# Altium integrated library Lattice CPLD ispMACH 5000VG.IntLib: 24 symbols (part 5 of 5)
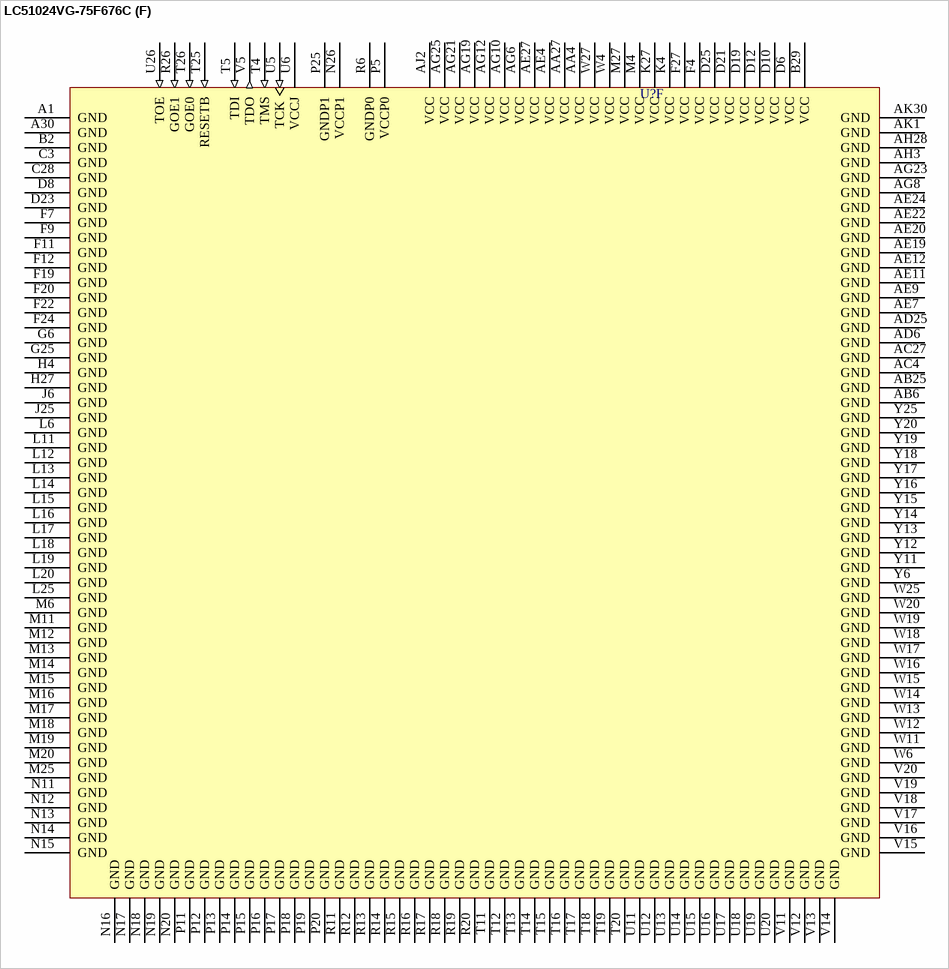
[diagram p37: symbol LC51024VG-75F676C]

## LC51024VG-75F676C
designator U?
ispMACH 51024VG SuperBIG, SuperWIDE, High Density PLD, 3.3 V, 384 User I/Os, 676-Ball fpBGA, 7.5 ns, Commercial Grade; Published: 17-Dec-2003; LatestRevisionDate: 13-Apr-2006; LatestRevisionNote: IPC-7351 Footprint Added.; DatasheetVersion: 5kvg_09; PackageVersion: pkg_32, Aug-2005; PackageReference: fpBGA676; Publisher: Altium Limited; PackageDescription: 676-Ball Fine Pitch Ball Grid Array (fpBGA676); ComponentLink1Description: Manufacturer Link; ComponentLink1URL: http://www.latticesemi.com/; ComponentLink2Description: Datasheet; ComponentLink2URL: http://www.latticesemi.com/account/_download.cfm?AMID=3480; ComponentLink3Description: Lattice Login; ComponentLink3URL: http://www.latticesemi.com/account/login.cfm
footprint fpBGA676 (BGA, 676-Leads, Body 31x31mm, Pitch 1mm)
3D model 51024VG-fpBGA676 (676-Ball Fine Pitch Ball Grid Array (fpBGA676))
part A pins: A2 0A-8 (io), A3 0A-0 (io), A4 0D-0 (io), A5 0D-10 (io), A6 0D-16 (io), A7 0D-24 (io), A8 0C-0 (io), A9 0C-6 (io), A10 0C-16 (io), A11 0C-20 (io), A12 0C-26 (io), A13 0C-30 (io), B1 0A-20 (io), B3 0A-10 (io), B4 0A-2 (io), B5 0D-2 (io), B6 0D-12 (io), B7 0D-18 (io), B8 0D-28 (io), B9 0C-2 (io), B10 0C-10 (io), B11 0C-18 (io), B12 0C-24 (io), B13 0C-28 (io), C1 0B-30 (io), C2 0A-22 (io), C4 0A-12 (io), C5 0A-4 (io), C6 0D-8 (io), C7 0D-14 (io), C8 0D-20 (io), C9 0D-30 (io), C10 0C-4 (io), C11 0C-14/VREF0 (io), C12 0C-22 (io), D1 0B-24 (io), D2 0B-28 (io), D3 0A-26 (io), D4 0A-18 (io), D5 0A-14 (io), D7 0D-6 (io), D9 0D-22 (io), D11 0C-8 (io), E1 0B-16 (io), E2 0B-22 (io), E3 0B-26 (io), E4 0A-28 (io), E5 VCCO0 (power), E6 0A-16 (io), E7 VCCO0 (power), E8 0D-4 (io), E9 VCCO0 (power), E10 0D-26 (io), E11 VCCO0 (power), E12 0C-12 (io), F1 0B-6 (io), F2 0B-12 (io), F3 0B-18 (io), F5 0A-30 (io), F6 0A-24 (io), F8 0A-6 (io), F10 VCCO0 (power), G1 0B-0 (io), G2 0B-4 (io), G3 0B-8 (io), G4 0B-14 (io), G5 VCCO0 (power), H1 1A-4 (io), H2 1A-0 (io), H3 0B-2 (io), H5 0B-10 (io), H6 0B-20 (io), J1 1A-12 (io), J2 1A-10 (io), J3 1A-6 (io), J4 1A-2 (io), J5 VCCO0 (power), K1 1A-18 (io), K2 1A-16 (io), K3 1A-14 (io), K5 1A-8 (io), K6 VCCO0 (power), L1 1A-28 (io), L2 1A-24 (io), L3 1A-22 (io), L4 1A-20 (io), L5 VCCO0 (power), M1 1B-28 (io), M2 1B-30/CLK_OUT0 (io), M3 1A-30 (io), M5 1A-26 (io), N1 1B-16 (io), N2 1B-18 (io), N3 1B-20 (io), N4 1B-22 (io), N5 1B-24 (io), N6 1B-26 (io), P1 1B-6/PLL_RST0 (io), P2 1B-8 (io), P3 1B-10 (io), P4 1B-12 (io), P6 1B-14 (io), R2 1B-0 (io), R3 1B-2 (io), R4 1B-4/PLL_FBK0 (io), R5 GCLK0 (in)
part B pins: AA1 2A-22 (io), AA2 2A-18 (io), AA3 2A-16 (io), AA5 2A-10 (io), AA6 VCCO1 (power), AB1 2A-14 (io), AB2 2A-12 (io), AB3 2A-8 (io), AB4 2A-4 (io), AB5 VCCO1 (power), AC1 2A-6 (io), AC2 2A-2 (io), AC3 3B-0 (io), AC5 3B-10 (io), AC6 3B-18 (io), AD1 2A-0 (io), AD2 3B-2 (io), AD3 3B-6 (io), AD4 3B-14 (io), AD5 VCCO1 (power), AE1 3B-4 (io), AE2 3B-8 (io), AE3 3B-16 (io), AE5 3B-30 (io), AE6 3A-26 (io), AE8 3A-8 (io), AE10 VCCO1 (power), AF1 3B-12 (io), AF2 3B-20 (io), AF3 3B-24 (io), AF4 3A-30 (io), AF5 VCCO1 (power), AF6 3A-18 (io), AF7 VCCO1 (power), AF8 3D-4 (io), AF9 VCCO1 (power), AF10 3D-24 (io), AF11 VCCO1 (power), AF12 3C-10 (io), AG1 3B-22 (io), AG2 3B-26 (io), AG3 3A-28 (io), AG4 3A-20 (io), AG5 3A-16 (io), AG7 3D-6 (io), AG9 3D-20 (io), AG11 3C-6 (io), AH1 3B-28 (io), AH2 3A-24 (io), AH4 3A-14 (io), AH5 3A-6 (io), AH6 3D-2 (io), AH7 3D-12 (io), AH8 3D-18 (io), AH9 3D-28 (io), AH10 3C-2 (io), AH11 3C-12 (io), AH12 3C-20 (io), AH13 3C-26 (io), AJ1 3A-22 (io), AJ3 3A-12 (io), AJ4 3A-4 (io), AJ5 3D-0 (io), AJ6 3D-10 (io), AJ7 3D-16 (io), AJ8 3D-26 (io), AJ9 3C-0 (io), AJ10 3C-8 (io), AJ11 3C-16 (io), AJ12 3C-22 (io), AJ13 3C-28 (io), AK2 3A-10 (io), AK3 3A-2 (io), AK4 3A-0 (io), AK5 3D-8 (io), AK6 3D-14 (io), AK7 3D-22 (io), AK8 3D-30 (io), AK9 3C-4 (io), AK10 3C-14/VREF1 (io), AK11 3C-18 (io), AK12 3C-24 (io), AK13 3C-30 (io), R1 2B-0 (io), T1 2B-2 (io), T2 2B-6 (io), T3 2B-4 (io), T6 GCLK1 (in), U1 2B-8 (io), U2 2B-10 (io), U3 2B-12 (io), U4 2B-14 (io), V1 2B-16 (io), V2 2B-18 (io), V3 2B-20 (io), V4 2B-22 (io), V6 2B-26 (io), W1 2B-24 (io), W2 2B-28 (io), W3 2B-30 (io), W5 2A-28 (io), Y1 2A-30 (io), Y2 2A-26 (io), Y3 2A-24 (io), Y4 2A-20 (io), Y5 VCCO1 (power)
part C pins: AA25 VCCO2 (power), AA26 5A-8 (io), AA28 5A-14 (io), AA29 5A-16 (io), AA30 5A-18 (io), AB26 VCCO2 (power), AB27 5A-2 (io), AB28 5A-6 (io), AB29 5A-10 (io), AB30 5A-12 (io), AC25 4B-20 (io), AC26 4B-10 (io), AC28 4B-2 (io), AC29 5A-0 (io), AC30 5A-4 (io), AD26 VCCO2 (power), AD27 4B-14 (io), AD28 4B-8 (io), AD29 4B-4 (io), AD30 4B-0 (io), AE21 VCCO2 (power), AE23 4A-4 (io), AE25 4A-24 (io), AE26 4A-30 (io), AE28 4B-18 (io), AE29 4B-12 (io), AE30 4B-6 (io), AF19 4C-14 (io), AF20 VCCO2 (power), AF21 4D-26 (io), AF22 VCCO2 (power), AF23 4D-4 (io), AF24 VCCO2 (power), AF25 4A-14 (io), AF26 VCCO2 (power), AF27 4A-28 (io), AF28 4B-26 (io), AF29 4B-22 (io), AF30 4B-16 (io), AG20 4C-10 (io), AG22 4D-24 (io), AG24 4D-6 (io), AG26 4A-12 (io), AG27 4A-18 (io), AG28 4A-26 (io), AG29 4B-28 (io), AG30 4B-24 (io), AH19 4C-24 (io), AH20 4C-16 (io), AH21 4C-6 (io), AH22 4C-0 (io), AH23 4D-22 (io), AH24 4D-16 (io), AH25 4D-8 (io), AH26 4A-2 (io), AH27 4A-10 (io), AH29 4A-22 (io), AH30 4B-30 (io), AJ19 4C-26 (io), AJ20 4C-20 (io), AJ21 4C-12/VREF2 (io), AJ22 4C-4 (io), AJ23 4D-30 (io), AJ24 4D-20 (io), AJ25 4D-14 (io), AJ26 4D-10 (io), AJ27 4A-0 (io), AJ28 4A-8 (io), AJ29 4A-16 (io), AJ30 4A-20 (io), AK18 4C-30 (io), AK19 4C-28 (io), AK20 4C-22 (io), AK21 4C-18 (io), AK22 4C-8 (io), AK23 4C-2 (io), AK24 4D-28 (io), AK25 4D-18 (io), AK26 4D-12 (io), AK27 4D-2 (io), AK28 4D-0 (io), AK29 4A-6 (io), R25 GCLK2 (in), T27 5B-4 (io), T28 5B-2 (io), T29 5B-0 (io), U25 5B-14 (io), U27 5B-12 (io), U28 5B-10 (io), U29 5B-8 (io), U30 5B-6 (io), V25 5B-26 (io), V26 5B-24 (io), V27 5B-22 (io), V28 5B-20 (io), V29 5B-18 (io), V30 5B-16 (io), W26 5A-26 (io), W28 5A-30 (io), W29 5B-30 (io), W30 5B-28 (io), Y26 VCCO2 (power), Y27 5A-20 (io), Y28 5A-22 (io), Y29 5A-24 (io), Y30 5A-28 (io)
part D pins: A18 7C-30 (io), A19 7C-26 (io), A20 7C-20 (io), A21 7C-16 (io), A22 7C-6 (io), A23 7C-0 (io), A24 7D-24 (io), A25 7D-16 (io), A26 7D-10 (io), A27 7D-0 (io), A28 7A-0 (io), A29 7A-8 (io), B18 7C-28 (io), B19 7C-24 (io), B20 7C-18 (io), B21 7C-10 (io), B22 7C-2 (io), B23 7D-28 (io), B24 7D-18 (io), B25 7D-12 (io), B26 7D-2 (io), B27 7A-2 (io), B28 7A-10 (io), B30 7A-20 (io), C19 7C-22 (io), C20 7C-14 (io), C21 7C-4 (io), C22 7D-30 (io), C23 7D-20 (io), C24 7D-14 (io), C25 7D-8 (io), C26 7A-4 (io), C27 7A-12 (io), C29 7A-22 (io), C30 7B-30 (io), D20 7C-8 (io), D22 7D-22 (io), D24 7D-6 (io), D26 7A-14 (io), D27 7A-18 (io), D28 7A-26 (io), D29 7B-28 (io), D30 7B-24 (io), E19 7C-12/VREF3 (io), E20 VCCO3 (power), E21 7D-26 (io), E22 VCCO3 (power), E23 7D-4 (io), E24 VCCO3 (power), E25 7A-16 (io), E26 VCCO3 (power), E27 7A-28 (io), E28 7B-26 (io), E29 7B-22 (io), E30 7B-16 (io), F21 VCCO3 (power), F23 7A-6 (io), F25 7A-24 (io), F26 7A-30 (io), F28 7B-18 (io), F29 7B-12 (io), F30 7B-6 (io), G26 VCCO3 (power), G27 7B-14 (io), G28 7B-8 (io), G29 7B-4 (io), G30 7B-0 (io), H25 7B-20 (io), H26 7B-10 (io), H28 7B-2 (io), H29 6A-0 (io), H30 6A-4 (io), J26 VCCO3 (power), J27 6A-2 (io), J28 6A-6 (io), J29 6A-10 (io), J30 6A-12 (io), K25 VCCO3 (power), K26 6A-8 (io), K28 6A-14 (io), K29 6A-16 (io), K30 6A-18 (io), L26 VCCO3 (power), L27 6A-20 (io), L28 6A-22 (io), L29 6A-24 (io), L30 6A-28 (io), M26 6A-26 (io), M28 6A-30 (io), M29 6B-30/CLK_OUT1 (io), M30 6B-28 (io), N25 6B-26 (io), N27 6B-24 (io), N28 6B-22 (io), N29 6B-20 (io), N30 6B-18 (io), P26 GCLK3 (in), P27 6B-16 (io), P28 6B-14 (io), P29 6B-12 (io), P30 6B-10 (io), R27 6B4/PLL_FBK1 (io), R28 6B6/PLL_RST1 (io), R29 6B-2 (io), R30 6B-8 (io), T30 6B-0 (io)
part E pins: A14 NC, A15 NC, A16 NC, A17 NC, AE13 NC, AE14 NC, AE15 NC, AE16 NC, AE17 NC, AE18 NC, AF13 NC, AF14 NC, AF15 NC, AF16 NC, AF17 NC, AF18 NC, AG13 NC, AG14 NC, AG15 NC, AG16 NC, AG17 NC, AG18 NC, AH14 NC, AH15 NC, AH16 NC, AH17 NC, AH18 NC, AJ14 NC, AJ15 NC, AJ16 NC, AJ17 NC, AJ18 NC, AK14 NC, AK15 NC, AK16 NC, AK17 NC, B14 NC, B15 NC, B16 NC, B17 NC, C13 NC, C14 NC, C15 NC, C16 NC, C17 NC, C18 NC, D13 NC, D14 NC, D15 NC, D16 NC, D17 NC, D18 NC, E13 NC, E14 NC, E15 NC, E16 NC, E17 NC, E18 NC, F13 NC, F14 NC, F15 NC, F16 NC, F17 NC, F18 NC
part F pins: A1 GND (power), A30 GND (power), AA4 VCC (power), AA27 VCC (power), AB6 GND (power), AB25 GND (power), AC4 GND (power), AC27 GND (power), AD6 GND (power), AD25 GND (power), AE4 VCC (power), AE7 GND (power), AE9 GND (power), AE11 GND (power), AE12 GND (power), AE19 GND (power), AE20 GND (power), AE22 GND (power), AE24 GND (power), AE27 VCC (power), AG6 VCC (power), AG8 GND (power), AG10 VCC (power), AG12 VCC (power), AG19 VCC (power), AG21 VCC (power), AG23 GND (power), AG25 VCC (power), AH3 GND (power), AH28 GND (power), AJ2 VCC (power), AK1 GND (power), AK30 GND (power), B2 GND (power), B29 VCC (power), C3 GND (power), C28 GND (power), D6 VCC (power), D8 GND (power), D10 VCC (power), D12 VCC (power), D19 VCC (power), D21 VCC (power), D23 GND (power), D25 VCC (power), F4 VCC (power), F7 GND (power), F9 GND (power), F11 GND (power), F12 GND (power), F19 GND (power), F20 GND (power), F22 GND (power), F24 GND (power), F27 VCC (power), G6 GND (power), G25 GND (power), H4 GND (power), H27 GND (power), J6 GND (power), J25 GND (power), K4 VCC (power), K27 VCC (power), L6 GND (power), L11 GND (power), L12 GND (power), L13 GND (power), L14 GND (power), L15 GND (power), L16 GND (power), L17 GND (power), L18 GND (power), L19 GND (power), L20 GND (power), L25 GND (power), M4 VCC (power), M6 GND (power), M11 GND (power), M12 GND (power), M13 GND (power), M14 GND (power), M15 GND (power), M16 GND (power), M17 GND (power), M18 GND (power), M19 GND (power), M20 GND (power), M25 GND (power), M27 VCC (power), N11 GND (power), N12 GND (power), N13 GND (power), N14 GND (power), N15 GND (power), N16 GND (power), N17 GND (power), N18 GND (power), N19 GND (power), N20 GND (power), N26 VCCP1 (power), P5 VCCP0 (power), P11 GND (power), P12 GND (power), P13 GND (power), P14 GND (power), P15 GND (power), P16 GND (power), P17 GND (power), P18 GND (power), P19 GND (power), P20 GND (power), P25 GNDP1 (power), R6 GNDP0 (power), R11 GND (power), R12 GND (power), R13 GND (power), R14 GND (power), R15 GND (power), R16 GND (power), R17 GND (power), R18 GND (power), R19 GND (power), R20 GND (power), R26 GOE1 (in), T4 TMS (in), T5 TDI (in), T11 GND (power), T12 GND (power), T13 GND (power), T14 GND (power), T15 GND (power), T16 GND (power), T17 GND (power), T18 GND (power), T19 GND (power), T20 GND (power), T25 RESETB (in), T26 GOE0 (in), U5 TCK (in), U6 VCCJ (power), U11 GND (power), U12 GND (power), U13 GND (power), U14 GND (power), U15 GND (power), U16 GND (power), U17 GND (power), U18 GND (power), U19 GND (power), U20 GND (power), U26 TOE (in), V5 TDO (out), V11 GND (power), V12 GND (power), V13 GND (power), V14 GND (power), V15 GND (power), V16 GND (power), V17 GND (power), V18 GND (power), V19 GND (power), V20 GND (power), W4 VCC (power), W6 GND (power), W11 GND (power), W12 GND (power), W13 GND (power), W14 GND (power), W15 GND (power), W16 GND (power), W17 GND (power), W18 GND (power), W19 GND (power), W20 GND (power), W25 GND (power), W27 VCC (power), Y6 GND (power), Y11 GND (power), Y12 GND (power), Y13 GND (power), Y14 GND (power), Y15 GND (power), Y16 GND (power), Y17 GND (power), Y18 GND (power), Y19 GND (power), Y20 GND (power), Y25 GND (power)
part A text: Bank 0
part B text: Bank 1
part C text: Bank 2
part D text: Bank 3

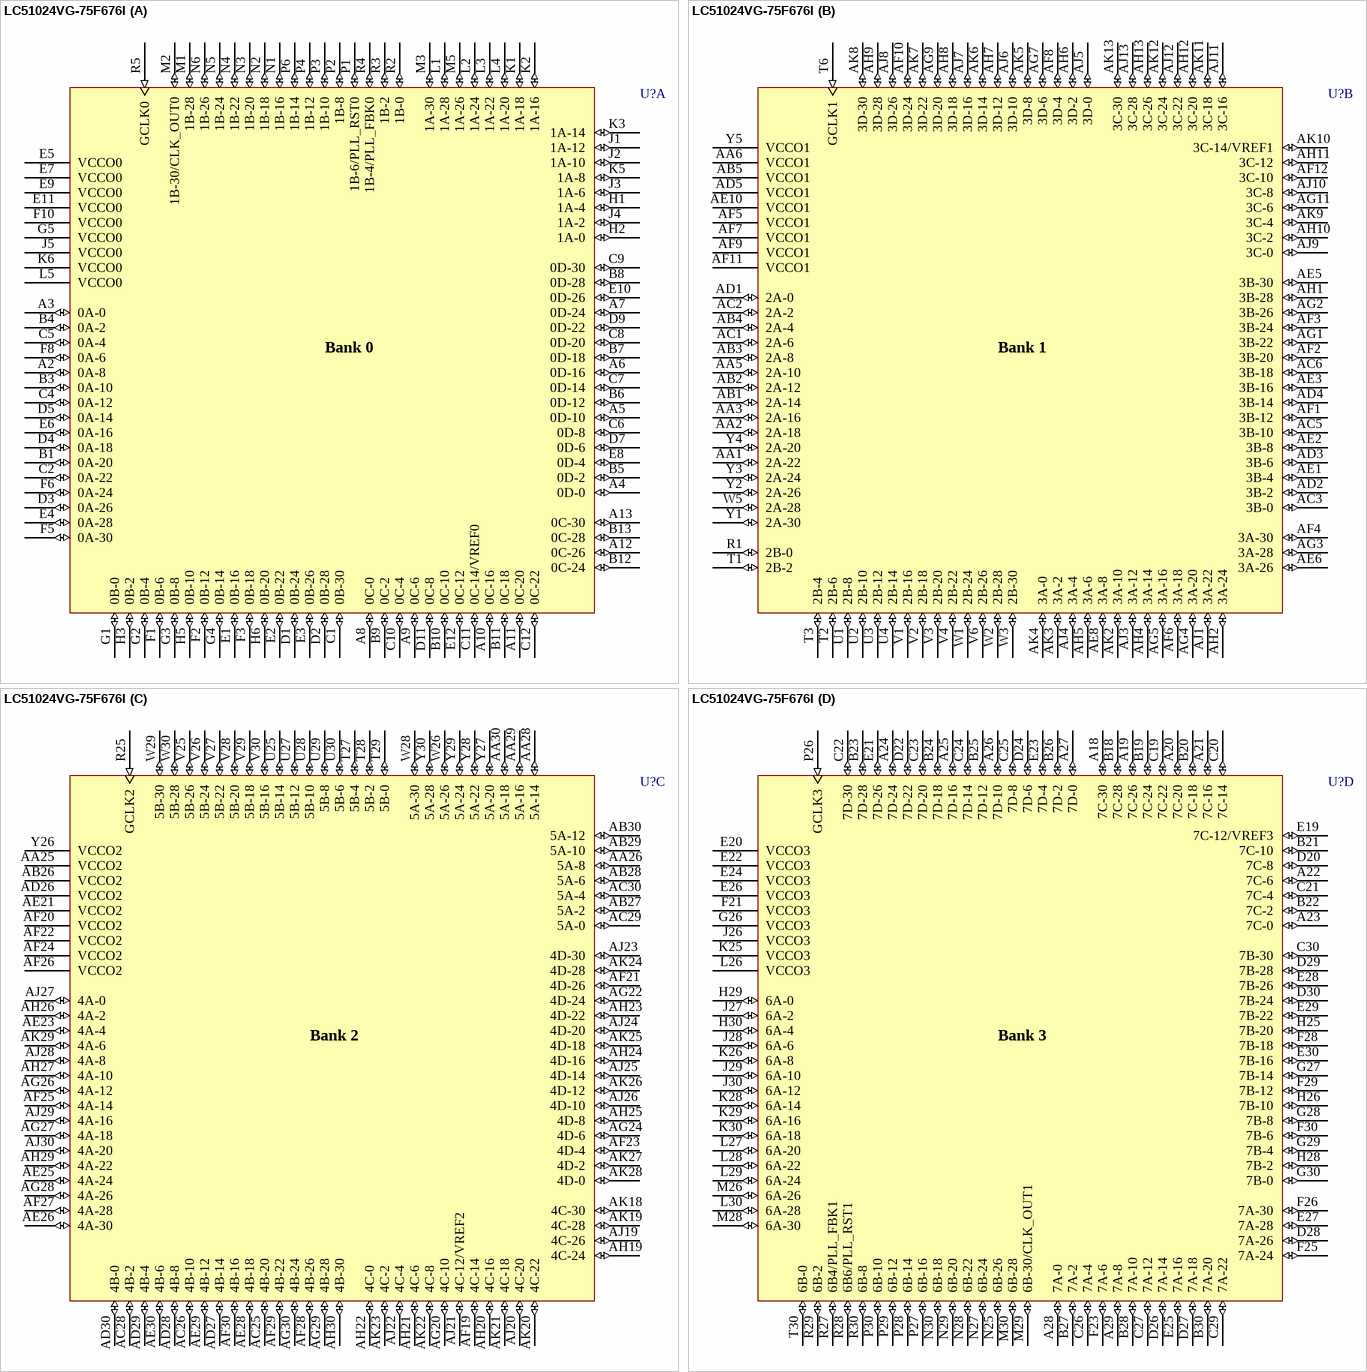
[diagram p32: symbol LC51024VG-75F676I]

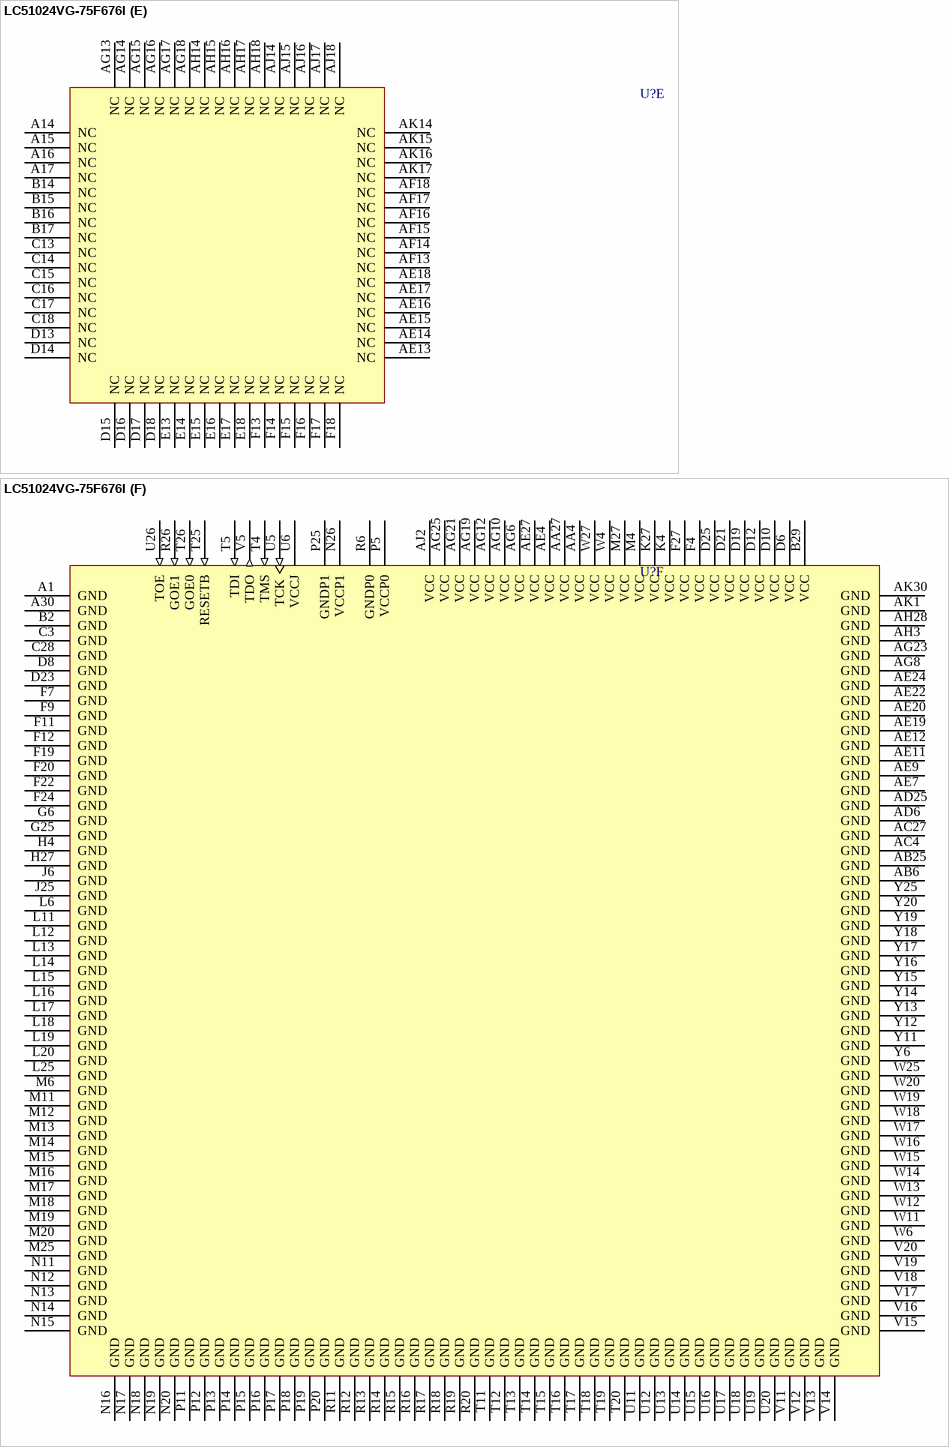
[diagram p33: symbol LC51024VG-75F676I]

## LC51024VG-75F676I
designator U?
ispMACH 51024VG SuperBIG, SuperWIDE, High Density PLD, 3.3 V, 384 User I/Os, 676-Ball fpBGA, 7.5 ns, Industrial Grade; Published: 17-Dec-2003; LatestRevisionDate: 13-Apr-2006; LatestRevisionNote: IPC-7351 Footprint Added.; DatasheetVersion: 5kvg_09; PackageVersion: pkg_32, Aug-2005; PackageReference: fpBGA676; Publisher: Altium Limited; PackageDescription: 676-Ball Fine Pitch Ball Grid Array (fpBGA676); ComponentLink1Description: Manufacturer Link; ComponentLink1URL: http://www.latticesemi.com/; ComponentLink2Description: Datasheet; ComponentLink2URL: http://www.latticesemi.com/account/_download.cfm?AMID=3480; ComponentLink3Description: Lattice Login; ComponentLink3URL: http://www.latticesemi.com/account/login.cfm
footprint fpBGA676 (BGA, 676-Leads, Body 31x31mm, Pitch 1mm)
3D model 51024VG-fpBGA676 (676-Ball Fine Pitch Ball Grid Array (fpBGA676))
part A pins: A2 0A-8 (io), A3 0A-0 (io), A4 0D-0 (io), A5 0D-10 (io), A6 0D-16 (io), A7 0D-24 (io), A8 0C-0 (io), A9 0C-6 (io), A10 0C-16 (io), A11 0C-20 (io), A12 0C-26 (io), A13 0C-30 (io), B1 0A-20 (io), B3 0A-10 (io), B4 0A-2 (io), B5 0D-2 (io), B6 0D-12 (io), B7 0D-18 (io), B8 0D-28 (io), B9 0C-2 (io), B10 0C-10 (io), B11 0C-18 (io), B12 0C-24 (io), B13 0C-28 (io), C1 0B-30 (io), C2 0A-22 (io), C4 0A-12 (io), C5 0A-4 (io), C6 0D-8 (io), C7 0D-14 (io), C8 0D-20 (io), C9 0D-30 (io), C10 0C-4 (io), C11 0C-14/VREF0 (io), C12 0C-22 (io), D1 0B-24 (io), D2 0B-28 (io), D3 0A-26 (io), D4 0A-18 (io), D5 0A-14 (io), D7 0D-6 (io), D9 0D-22 (io), D11 0C-8 (io), E1 0B-16 (io), E2 0B-22 (io), E3 0B-26 (io), E4 0A-28 (io), E5 VCCO0 (power), E6 0A-16 (io), E7 VCCO0 (power), E8 0D-4 (io), E9 VCCO0 (power), E10 0D-26 (io), E11 VCCO0 (power), E12 0C-12 (io), F1 0B-6 (io), F2 0B-12 (io), F3 0B-18 (io), F5 0A-30 (io), F6 0A-24 (io), F8 0A-6 (io), F10 VCCO0 (power), G1 0B-0 (io), G2 0B-4 (io), G3 0B-8 (io), G4 0B-14 (io), G5 VCCO0 (power), H1 1A-4 (io), H2 1A-0 (io), H3 0B-2 (io), H5 0B-10 (io), H6 0B-20 (io), J1 1A-12 (io), J2 1A-10 (io), J3 1A-6 (io), J4 1A-2 (io), J5 VCCO0 (power), K1 1A-18 (io), K2 1A-16 (io), K3 1A-14 (io), K5 1A-8 (io), K6 VCCO0 (power), L1 1A-28 (io), L2 1A-24 (io), L3 1A-22 (io), L4 1A-20 (io), L5 VCCO0 (power), M1 1B-28 (io), M2 1B-30/CLK_OUT0 (io), M3 1A-30 (io), M5 1A-26 (io), N1 1B-16 (io), N2 1B-18 (io), N3 1B-20 (io), N4 1B-22 (io), N5 1B-24 (io), N6 1B-26 (io), P1 1B-6/PLL_RST0 (io), P2 1B-8 (io), P3 1B-10 (io), P4 1B-12 (io), P6 1B-14 (io), R2 1B-0 (io), R3 1B-2 (io), R4 1B-4/PLL_FBK0 (io), R5 GCLK0 (in)
part B pins: AA1 2A-22 (io), AA2 2A-18 (io), AA3 2A-16 (io), AA5 2A-10 (io), AA6 VCCO1 (power), AB1 2A-14 (io), AB2 2A-12 (io), AB3 2A-8 (io), AB4 2A-4 (io), AB5 VCCO1 (power), AC1 2A-6 (io), AC2 2A-2 (io), AC3 3B-0 (io), AC5 3B-10 (io), AC6 3B-18 (io), AD1 2A-0 (io), AD2 3B-2 (io), AD3 3B-6 (io), AD4 3B-14 (io), AD5 VCCO1 (power), AE1 3B-4 (io), AE2 3B-8 (io), AE3 3B-16 (io), AE5 3B-30 (io), AE6 3A-26 (io), AE8 3A-8 (io), AE10 VCCO1 (power), AF1 3B-12 (io), AF2 3B-20 (io), AF3 3B-24 (io), AF4 3A-30 (io), AF5 VCCO1 (power), AF6 3A-18 (io), AF7 VCCO1 (power), AF8 3D-4 (io), AF9 VCCO1 (power), AF10 3D-24 (io), AF11 VCCO1 (power), AF12 3C-10 (io), AG1 3B-22 (io), AG2 3B-26 (io), AG3 3A-28 (io), AG4 3A-20 (io), AG5 3A-16 (io), AG7 3D-6 (io), AG9 3D-20 (io), AG11 3C-6 (io), AH1 3B-28 (io), AH2 3A-24 (io), AH4 3A-14 (io), AH5 3A-6 (io), AH6 3D-2 (io), AH7 3D-12 (io), AH8 3D-18 (io), AH9 3D-28 (io), AH10 3C-2 (io), AH11 3C-12 (io), AH12 3C-20 (io), AH13 3C-26 (io), AJ1 3A-22 (io), AJ3 3A-12 (io), AJ4 3A-4 (io), AJ5 3D-0 (io), AJ6 3D-10 (io), AJ7 3D-16 (io), AJ8 3D-26 (io), AJ9 3C-0 (io), AJ10 3C-8 (io), AJ11 3C-16 (io), AJ12 3C-22 (io), AJ13 3C-28 (io), AK2 3A-10 (io), AK3 3A-2 (io), AK4 3A-0 (io), AK5 3D-8 (io), AK6 3D-14 (io), AK7 3D-22 (io), AK8 3D-30 (io), AK9 3C-4 (io), AK10 3C-14/VREF1 (io), AK11 3C-18 (io), AK12 3C-24 (io), AK13 3C-30 (io), R1 2B-0 (io), T1 2B-2 (io), T2 2B-6 (io), T3 2B-4 (io), T6 GCLK1 (in), U1 2B-8 (io), U2 2B-10 (io), U3 2B-12 (io), U4 2B-14 (io), V1 2B-16 (io), V2 2B-18 (io), V3 2B-20 (io), V4 2B-22 (io), V6 2B-26 (io), W1 2B-24 (io), W2 2B-28 (io), W3 2B-30 (io), W5 2A-28 (io), Y1 2A-30 (io), Y2 2A-26 (io), Y3 2A-24 (io), Y4 2A-20 (io), Y5 VCCO1 (power)
part C pins: AA25 VCCO2 (power), AA26 5A-8 (io), AA28 5A-14 (io), AA29 5A-16 (io), AA30 5A-18 (io), AB26 VCCO2 (power), AB27 5A-2 (io), AB28 5A-6 (io), AB29 5A-10 (io), AB30 5A-12 (io), AC25 4B-20 (io), AC26 4B-10 (io), AC28 4B-2 (io), AC29 5A-0 (io), AC30 5A-4 (io), AD26 VCCO2 (power), AD27 4B-14 (io), AD28 4B-8 (io), AD29 4B-4 (io), AD30 4B-0 (io), AE21 VCCO2 (power), AE23 4A-4 (io), AE25 4A-24 (io), AE26 4A-30 (io), AE28 4B-18 (io), AE29 4B-12 (io), AE30 4B-6 (io), AF19 4C-14 (io), AF20 VCCO2 (power), AF21 4D-26 (io), AF22 VCCO2 (power), AF23 4D-4 (io), AF24 VCCO2 (power), AF25 4A-14 (io), AF26 VCCO2 (power), AF27 4A-28 (io), AF28 4B-26 (io), AF29 4B-22 (io), AF30 4B-16 (io), AG20 4C-10 (io), AG22 4D-24 (io), AG24 4D-6 (io), AG26 4A-12 (io), AG27 4A-18 (io), AG28 4A-26 (io), AG29 4B-28 (io), AG30 4B-24 (io), AH19 4C-24 (io), AH20 4C-16 (io), AH21 4C-6 (io), AH22 4C-0 (io), AH23 4D-22 (io), AH24 4D-16 (io), AH25 4D-8 (io), AH26 4A-2 (io), AH27 4A-10 (io), AH29 4A-22 (io), AH30 4B-30 (io), AJ19 4C-26 (io), AJ20 4C-20 (io), AJ21 4C-12/VREF2 (io), AJ22 4C-4 (io), AJ23 4D-30 (io), AJ24 4D-20 (io), AJ25 4D-14 (io), AJ26 4D-10 (io), AJ27 4A-0 (io), AJ28 4A-8 (io), AJ29 4A-16 (io), AJ30 4A-20 (io), AK18 4C-30 (io), AK19 4C-28 (io), AK20 4C-22 (io), AK21 4C-18 (io), AK22 4C-8 (io), AK23 4C-2 (io), AK24 4D-28 (io), AK25 4D-18 (io), AK26 4D-12 (io), AK27 4D-2 (io), AK28 4D-0 (io), AK29 4A-6 (io), R25 GCLK2 (in), T27 5B-4 (io), T28 5B-2 (io), T29 5B-0 (io), U25 5B-14 (io), U27 5B-12 (io), U28 5B-10 (io), U29 5B-8 (io), U30 5B-6 (io), V25 5B-26 (io), V26 5B-24 (io), V27 5B-22 (io), V28 5B-20 (io), V29 5B-18 (io), V30 5B-16 (io), W26 5A-26 (io), W28 5A-30 (io), W29 5B-30 (io), W30 5B-28 (io), Y26 VCCO2 (power), Y27 5A-20 (io), Y28 5A-22 (io), Y29 5A-24 (io), Y30 5A-28 (io)
part D pins: A18 7C-30 (io), A19 7C-26 (io), A20 7C-20 (io), A21 7C-16 (io), A22 7C-6 (io), A23 7C-0 (io), A24 7D-24 (io), A25 7D-16 (io), A26 7D-10 (io), A27 7D-0 (io), A28 7A-0 (io), A29 7A-8 (io), B18 7C-28 (io), B19 7C-24 (io), B20 7C-18 (io), B21 7C-10 (io), B22 7C-2 (io), B23 7D-28 (io), B24 7D-18 (io), B25 7D-12 (io), B26 7D-2 (io), B27 7A-2 (io), B28 7A-10 (io), B30 7A-20 (io), C19 7C-22 (io), C20 7C-14 (io), C21 7C-4 (io), C22 7D-30 (io), C23 7D-20 (io), C24 7D-14 (io), C25 7D-8 (io), C26 7A-4 (io), C27 7A-12 (io), C29 7A-22 (io), C30 7B-30 (io), D20 7C-8 (io), D22 7D-22 (io), D24 7D-6 (io), D26 7A-14 (io), D27 7A-18 (io), D28 7A-26 (io), D29 7B-28 (io), D30 7B-24 (io), E19 7C-12/VREF3 (io), E20 VCCO3 (power), E21 7D-26 (io), E22 VCCO3 (power), E23 7D-4 (io), E24 VCCO3 (power), E25 7A-16 (io), E26 VCCO3 (power), E27 7A-28 (io), E28 7B-26 (io), E29 7B-22 (io), E30 7B-16 (io), F21 VCCO3 (power), F23 7A-6 (io), F25 7A-24 (io), F26 7A-30 (io), F28 7B-18 (io), F29 7B-12 (io), F30 7B-6 (io), G26 VCCO3 (power), G27 7B-14 (io), G28 7B-8 (io), G29 7B-4 (io), G30 7B-0 (io), H25 7B-20 (io), H26 7B-10 (io), H28 7B-2 (io), H29 6A-0 (io), H30 6A-4 (io), J26 VCCO3 (power), J27 6A-2 (io), J28 6A-6 (io), J29 6A-10 (io), J30 6A-12 (io), K25 VCCO3 (power), K26 6A-8 (io), K28 6A-14 (io), K29 6A-16 (io), K30 6A-18 (io), L26 VCCO3 (power), L27 6A-20 (io), L28 6A-22 (io), L29 6A-24 (io), L30 6A-28 (io), M26 6A-26 (io), M28 6A-30 (io), M29 6B-30/CLK_OUT1 (io), M30 6B-28 (io), N25 6B-26 (io), N27 6B-24 (io), N28 6B-22 (io), N29 6B-20 (io), N30 6B-18 (io), P26 GCLK3 (in), P27 6B-16 (io), P28 6B-14 (io), P29 6B-12 (io), P30 6B-10 (io), R27 6B4/PLL_FBK1 (io), R28 6B6/PLL_RST1 (io), R29 6B-2 (io), R30 6B-8 (io), T30 6B-0 (io)
part E pins: A14 NC, A15 NC, A16 NC, A17 NC, AE13 NC, AE14 NC, AE15 NC, AE16 NC, AE17 NC, AE18 NC, AF13 NC, AF14 NC, AF15 NC, AF16 NC, AF17 NC, AF18 NC, AG13 NC, AG14 NC, AG15 NC, AG16 NC, AG17 NC, AG18 NC, AH14 NC, AH15 NC, AH16 NC, AH17 NC, AH18 NC, AJ14 NC, AJ15 NC, AJ16 NC, AJ17 NC, AJ18 NC, AK14 NC, AK15 NC, AK16 NC, AK17 NC, B14 NC, B15 NC, B16 NC, B17 NC, C13 NC, C14 NC, C15 NC, C16 NC, C17 NC, C18 NC, D13 NC, D14 NC, D15 NC, D16 NC, D17 NC, D18 NC, E13 NC, E14 NC, E15 NC, E16 NC, E17 NC, E18 NC, F13 NC, F14 NC, F15 NC, F16 NC, F17 NC, F18 NC
part F pins: A1 GND (power), A30 GND (power), AA4 VCC (power), AA27 VCC (power), AB6 GND (power), AB25 GND (power), AC4 GND (power), AC27 GND (power), AD6 GND (power), AD25 GND (power), AE4 VCC (power), AE7 GND (power), AE9 GND (power), AE11 GND (power), AE12 GND (power), AE19 GND (power), AE20 GND (power), AE22 GND (power), AE24 GND (power), AE27 VCC (power), AG6 VCC (power), AG8 GND (power), AG10 VCC (power), AG12 VCC (power), AG19 VCC (power), AG21 VCC (power), AG23 GND (power), AG25 VCC (power), AH3 GND (power), AH28 GND (power), AJ2 VCC (power), AK1 GND (power), AK30 GND (power), B2 GND (power), B29 VCC (power), C3 GND (power), C28 GND (power), D6 VCC (power), D8 GND (power), D10 VCC (power), D12 VCC (power), D19 VCC (power), D21 VCC (power), D23 GND (power), D25 VCC (power), F4 VCC (power), F7 GND (power), F9 GND (power), F11 GND (power), F12 GND (power), F19 GND (power), F20 GND (power), F22 GND (power), F24 GND (power), F27 VCC (power), G6 GND (power), G25 GND (power), H4 GND (power), H27 GND (power), J6 GND (power), J25 GND (power), K4 VCC (power), K27 VCC (power), L6 GND (power), L11 GND (power), L12 GND (power), L13 GND (power), L14 GND (power), L15 GND (power), L16 GND (power), L17 GND (power), L18 GND (power), L19 GND (power), L20 GND (power), L25 GND (power), M4 VCC (power), M6 GND (power), M11 GND (power), M12 GND (power), M13 GND (power), M14 GND (power), M15 GND (power), M16 GND (power), M17 GND (power), M18 GND (power), M19 GND (power), M20 GND (power), M25 GND (power), M27 VCC (power), N11 GND (power), N12 GND (power), N13 GND (power), N14 GND (power), N15 GND (power), N16 GND (power), N17 GND (power), N18 GND (power), N19 GND (power), N20 GND (power), N26 VCCP1 (power), P5 VCCP0 (power), P11 GND (power), P12 GND (power), P13 GND (power), P14 GND (power), P15 GND (power), P16 GND (power), P17 GND (power), P18 GND (power), P19 GND (power), P20 GND (power), P25 GNDP1 (power), R6 GNDP0 (power), R11 GND (power), R12 GND (power), R13 GND (power), R14 GND (power), R15 GND (power), R16 GND (power), R17 GND (power), R18 GND (power), R19 GND (power), R20 GND (power), R26 GOE1 (in), T4 TMS (in), T5 TDI (in), T11 GND (power), T12 GND (power), T13 GND (power), T14 GND (power), T15 GND (power), T16 GND (power), T17 GND (power), T18 GND (power), T19 GND (power), T20 GND (power), T25 RESETB (in), T26 GOE0 (in), U5 TCK (in), U6 VCCJ (power), U11 GND (power), U12 GND (power), U13 GND (power), U14 GND (power), U15 GND (power), U16 GND (power), U17 GND (power), U18 GND (power), U19 GND (power), U20 GND (power), U26 TOE (in), V5 TDO (out), V11 GND (power), V12 GND (power), V13 GND (power), V14 GND (power), V15 GND (power), V16 GND (power), V17 GND (power), V18 GND (power), V19 GND (power), V20 GND (power), W4 VCC (power), W6 GND (power), W11 GND (power), W12 GND (power), W13 GND (power), W14 GND (power), W15 GND (power), W16 GND (power), W17 GND (power), W18 GND (power), W19 GND (power), W20 GND (power), W25 GND (power), W27 VCC (power), Y6 GND (power), Y11 GND (power), Y12 GND (power), Y13 GND (power), Y14 GND (power), Y15 GND (power), Y16 GND (power), Y17 GND (power), Y18 GND (power), Y19 GND (power), Y20 GND (power), Y25 GND (power)
part A text: Bank 0
part B text: Bank 1
part C text: Bank 2
part D text: Bank 3